# EAGLE library part TOUCHA_PNNEL_FRAME (library HOME_AutomationV_1.0)
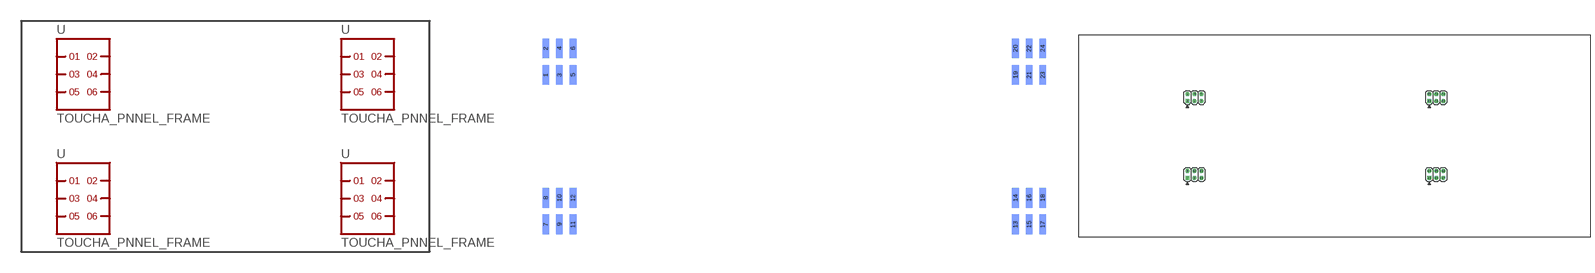
[diagram p9: symbol with the pads of TOUCHPANNELLAYOUT; footprints TOUCHPANNELLAYOUT, TOUCHLAYOUT_TH]

Designator prefix -

## TOUCHA_PNNEL_FRAME1  [TOUCHPANNELLAYOUT]
1  1
2  2
3  3
4  4
5  5
6  6
7  7
8  8
9  9
10  10
11  11
12  12
13  13
14  14
15  15
16  16
17  17
18  18
19  19
20  20
21  21
22  22
23  23
24  24

## TOUCHA_PNNEL_FRAME2  [TOUCHLAYOUT_TH]
Pads as for TOUCHPANNELLAYOUT

## Footprint TOUCHPANNELLAYOUT (pad centres in mm)
smd 1.27 x 3.683 bottom: 1 -46.99,10.223; 2 -46.99,15.177; 3 -44.45,10.223; 4 -44.45,15.177; 5 -41.91,10.223; 6 -41.91,15.177; 7 -46.99,-17.716; 8 -46.99,-12.764; 9 -44.45,-17.716; 10 -44.45,-12.764; 11 -41.91,-17.716; 12 -41.91,-12.764; 13 40.64,-17.716; 14 40.64,-12.764; 15 43.18,-17.716; 16 43.18,-12.764; 17 45.72,-17.716; 18 45.72,-12.764; 19 40.64,10.223; 20 40.64,15.177; 21 43.18,10.223; 22 43.18,15.177; 23 45.72,10.223; 24 45.72,15.177

## Footprint TOUCHLAYOUT_TH (pad centres in mm)
drill 1.016 square: 1 -46.99,11.43; 7 -46.99,-16.51; 13 40.64,-16.51; 19 40.64,11.43
drill 1.016 octagon: 2 -46.99,13.97; 3 -44.45,11.43; 4 -44.45,13.97; 5 -41.91,11.43; 6 -41.91,13.97; 8 -46.99,-13.97; 9 -44.45,-16.51; 10 -44.45,-13.97; 11 -41.91,-16.51; 12 -41.91,-13.97; 14 40.64,-13.97; 15 43.18,-16.51; 16 43.18,-13.97; 17 45.72,-16.51; 18 45.72,-13.97; 20 40.64,13.97; 21 43.18,11.43; 22 43.18,13.97; 23 45.72,11.43; 24 45.72,13.97